# EAGLE library part LM79L15 (library kennethlimcp)
LM79L15, SOIC-8
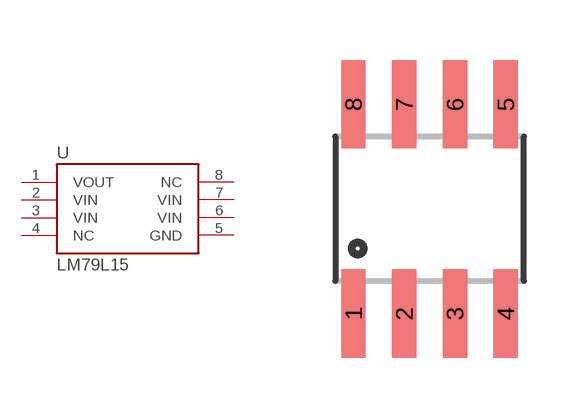
[diagram p3: symbol with the pads of SO08; footprint SO08]

Designator prefix -

## LM79L15  [SO08]
1  VOUT
2  VIN
3  VIN
4  NC
5  GND
6  VIN
7  VIN
8  NC

## Footprint SO08 (pad centres in mm)
Small Outline Package Fits JEDEC packages (narrow SOIC-8)
smd 0.61 x 2.21: 1 -1.905,-2.616; 2 -0.635,-2.616; 3 0.635,-2.616; 4 1.905,-2.616; 5 1.905,2.616; 6 0.635,2.616; 7 -0.635,2.616; 8 -1.905,2.616